# EAGLE library part LCD_CHAR (library xess)
LCD Character Display
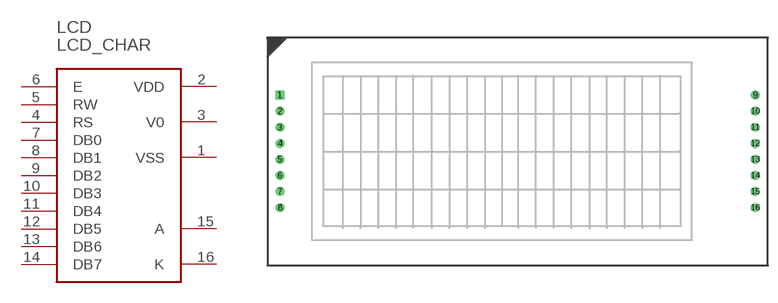
[diagram p119: symbol with the pads of NHD-420H1Z-FL-GBW-3V; footprint NHD-420H1Z-FL-GBW-3V]

Designator prefix LCD

## LCD_CHAR  [NHD-420H1Z-FL-GBW-3V]
1  VSS
2  VDD
3  V0
4  RS
5  RW
6  E
7  DB0
8  DB1
9  DB2
10  DB3
11  DB4
12  DB5
13  DB6
14  DB7
15  A
16  K

## Footprint NHD-420H1Z-FL-GBW-3V (pad centres in mm)
drill 0.9 square: 1 2,26.89
drill 0.9 round: 2 2,24.35; 3 2,21.81; 4 2,19.27; 5 2,16.73; 6 2,14.19; 7 2,11.65; 8 2,9.11; 9 77,26.89; 10 77,24.35; 11 77,21.81; 12 77,19.27; 13 77,16.73; 14 77,14.19; 15 77,11.65; 16 77,9.11